# Altium footprint library co2_meter_pcb_library.PcbLib: 17 footprints (part 1 of 2)
Each footprint in its own frame and in the unit in brackets; x right, y up, seen from the top. Pads: shape width x height; smd on the part's side, far side on the other; paste and mask are expansions set on the pad; w line width, h text height; cw(c..) or ccw(c..) is an arc to the next point about the centre after c.
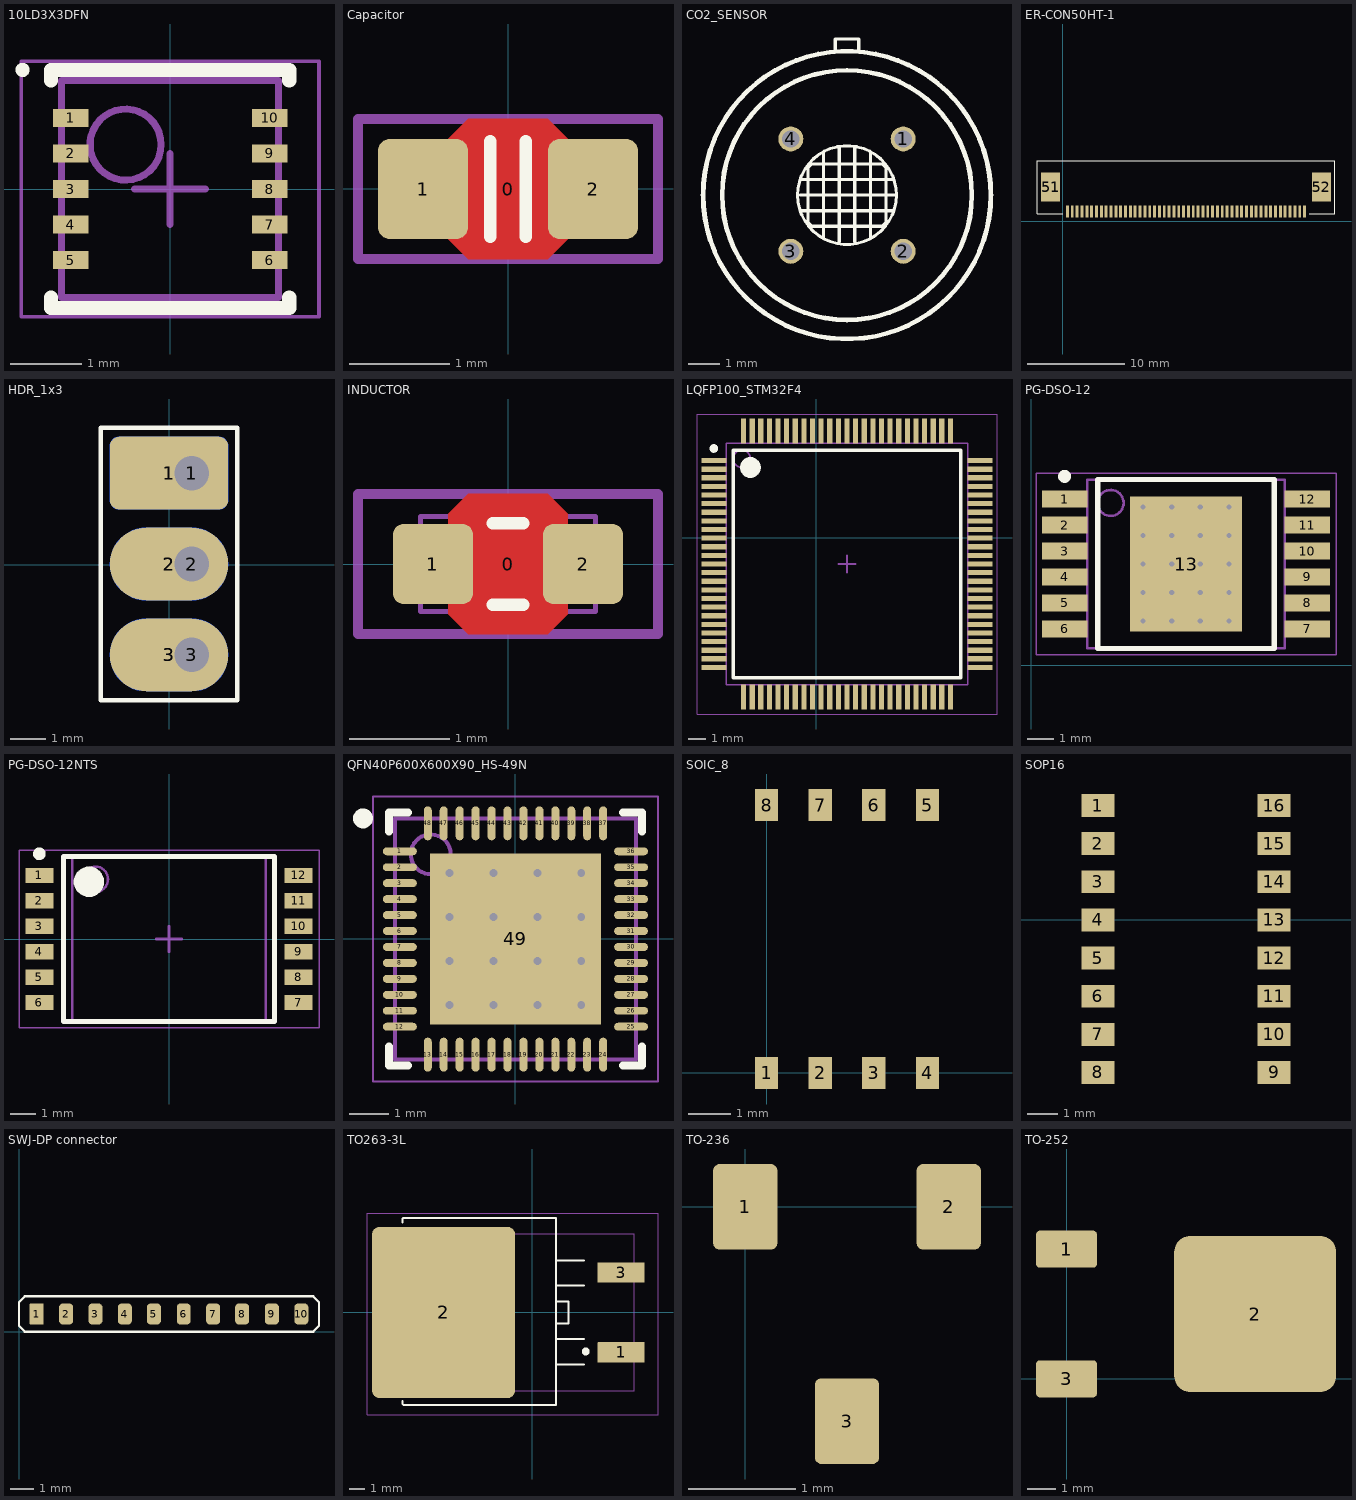
[diagram p0: the footprints below, top view; thin cyan lines are the x and y axes]

## 10LD3X3DFN [mm] "10 PIN DFPNL (DFN) Body 3x3mm, Pitch 0.50mm, IPC Medium Density"
height 0.9
pads (10):
  rect 0.5x0.25 smd: 1(-1.4,1) 2(-1.4,0.5) 3(-1.4,0) 4(-1.4,-0.5) 5(-1.4,-1) 6(1.4,-1) 7(1.4,-0.5) 8(1.4,0) 9(1.4,0.5) 10(1.4,1)
Top Overlay:
  circle w0.1: c-2.075,1.675 r0.05
  lines w0.2: -1.675,-1.525 -1.675,-1.675 1.675,-1.675 1.675,-1.525 ; -1.675,1.525 -1.675,1.675 1.675,1.675 1.675,1.525
Mechanical 13:
  circle w0.1: c-0.625,0.625 r0.5
  lines w0.1: -1.525,-1.525 1.525,-1.525 1.525,1.525 -1.525,1.525 -1.525,-1.525
Mechanical 15:
  lines w0.05: -2.095,-1.8 2.095,-1.8 2.095,1.8 -2.095,1.8 -2.095,-1.8
  lines w0.1: -0.5,0 0.5,0 ; 0,-0.5 0,0.5
3D body "SON50P300X90-10N.step": height 0.9, standoff 0, extent -1.625,-1.525 1.625,1.525

## Capacitor [mm] "Chip Capacitor, Body 1.6x0.8mm, EIA 0603, IPC Medium Density"
height 0.9
pads (3):
  round 0.254 on Mech15: 0(0,0)
  rrect25% 0.9x1 smd: 1(-0.85,0) 2(0.85,0)
Top Layer:
  pour cut-out: -0.6,0.5 -0.4,0.7 0.4,0.7 0.6,0.5 0.6,-0.5 0.4,-0.7 -0.4,-0.7 -0.6,-0.5
Top Overlay:
  lines w0.127: -0.178,-0.476 -0.178,0.476 ; 0.178,-0.476 0.178,0.476
Mechanical 13:
  lines w0.05: -0.55,-0.43 0.55,-0.43 ; -0.55,0.43 0.55,0.43 ; -0.85,-0.45 -0.85,0.45 -0.55,0.45 -0.55,-0.45 -0.85,-0.45 ; 0.55,-0.45 0.55,0.45 0.85,0.45 0.85,-0.45 0.55,-0.45
Mechanical 15:
  lines w0.1: -1.5,-0.7 -1.5,0.7 1.5,0.7 1.5,-0.7 -1.5,-0.7
3D body "CAP_0603.STEP": height 0.89, standoff -0.01, extent -0.85,-0.45 0.85,0.45

## CO2_SENSOR [mm] "4 pin package for TGS4161 sensor"
height 12.5
pads (4):
  round 0.8 hole 0.55: 1(7.971,6.97) 2(7.971,3.37) 3(4.371,3.37) 4(4.371,6.97)
Top Overlay:
  circle w0.15: c6.171,5.17 r4
  circle w0.15: c6.171,5.17 r4.61
  circle w0.1: c6.171,5.17 r1.581
  lines w0.1: 4.671,4.67 7.671,4.67 ; 4.671,5.17 7.752,5.17 ; 4.671,5.67 7.671,5.67 ; 5.421,3.795 5.421,6.545 ; 5.796,9.795 5.796,10.17 6.546,10.17 6.546,9.795 ; 5.921,3.67 5.921,6.67 ; 6.421,3.67 6.421,6.67 ; 6.921,3.795 6.921,6.545 ; 4.921,4.295 5.046,4.17 7.296,4.17 7.421,4.295 7.421,6.045 7.296,6.17 5.046,6.17 4.921,6.045 4.921,4.295
3D body: height 12.46, standoff 12.45, extent 3.471,2.47 8.871,7.87
3D body: height 0.7, standoff 0.05, extent 1.571,0.57 10.771,9.77
3D body: height 0.55, standoff 0.05, extent 5.796,9.77 6.546,10.17
3D body: height 12.45, standoff 0.05, extent 2.121,1.123 10.221,9.217

## ER-CON50HT-1 [mm] "50 pins 0.5mm pitch SMD horizontal type FPC ZIF"
height 2.7
pads (52):
  rect 0.3x1.25 smd: 1(0.5,1) 2(1,1) 3(1.5,1) 4(2,1) 5(2.5,1) 6(3,1) 7(3.5,1) 8(4,1) 9(4.5,1) 10(5,1) 11(5.5,1) 12(6,1) 13(6.5,1) 14(7,1) 15(7.5,1) 16(8,1) 17(8.5,1) 18(9,1) 19(9.5,1) 20(10,1) 21(10.5,1) 22(11,1) 23(11.5,1) 24(12,1) 25(12.5,1) 26(13,1) 27(13.5,1) 28(14,1) 29(14.5,1) 30(15,1) 31(15.5,1) 32(16,1) 33(16.5,1) 34(17,1) 35(17.5,1) 36(18,1) 37(18.5,1) 38(19,1) 39(19.5,1) 40(20,1) 41(20.5,1) 42(21,1) 43(21.5,1) 44(22,1) 45(22.5,1) 46(23,1) 47(23.5,1) 48(24,1) 49(24.5,1) 50(25,1)
  rect 2x3 smd: 51(-1.25,3.5) 52(26.75,3.5)
Top Overlay:
  lines w0.1: 0,0.75 -2.6,0.75 -2.6,6.25 28.1,6.25 28.1,0.75 25.5,0.75
3D body "ER-CON50HT-1--3DModel-STEP-56544.STEP": height 2.06, standoff 0.01, extent -2.575,0.75 28.075,6.25

## HDR_1x3 [mil]
pads (9):
  rrect25% 130x80 smd far side: 1(-0.35,100.71)
  rrect25% 130x80 smd: 1(-0.35,100.71)
  rrect25% 60x60 hole 38: 1(24.65,100.71)
  oval 130x80 smd far side: 2(-0.35,0.71) 3(-0.35,-99.29)
  oval 130x80 smd: 2(-0.35,0.71) 3(-0.35,-99.29)
  round 60 hole 38: 2(24.65,0.71) 3(24.65,-99.29)
Top Overlay:
  lines w5: -75.35,-149.29 74.65,-149.29 74.65,150.71 -75.35,150.71 -75.35,-149.29

## INDUCTOR [mm] "Chip Ferrite, Body 1.6x0.8mm, 0603, IPC Medium Density"
height 0.95
pads (3):
  round 0.254 on Mech15: 0(0,0)
  rrect25% 0.8x0.8 smd: 1(-0.75,0) 2(0.75,0)
Top Layer:
  pour cut-out: -0.6,0.5 -0.4,0.7 0.4,0.7 0.6,0.5 0.6,-0.5 0.4,-0.7 -0.4,-0.7 -0.6,-0.5
Top Overlay:
  lines w0.127: -0.152,-0.406 0.152,-0.406 ; -0.152,0.406 0.152,0.406
Mechanical 13:
  lines w0.05: -0.475,-0.475 -0.475,0.475 ; 0.475,-0.475 0.475,0.475 ; -0.875,-0.475 0.875,-0.475 0.875,0.475 -0.875,0.475 -0.875,-0.475
Mechanical 15:
  lines w0.1: -1.5,-0.7 -1.5,0.7 1.5,0.7 1.5,-0.7 -1.5,-0.7
3D body "FBC1608X95N.STEP": height 0.95, standoff 0, extent -0.875,-0.475 0.875,0.475

## LQFP100_STM32F4 [mm] "TSQFP, 100-Leads, Body 14.00x14.00mm, Pitch 0.50mm, IPC Medium Density"
height 1.6
pads (100):
  rect 1.45x0.3 smd: 1(-5.947,4.476) 2(-5.947,3.976) 3(-5.947,3.476) 4(-5.947,2.976) 5(-5.947,2.476) 6(-5.947,1.976) 7(-5.947,1.476) 8(-5.947,0.976) 9(-5.947,0.476) 10(-5.947,-0.024) 11(-5.947,-0.524) 12(-5.947,-1.024) 13(-5.947,-1.524) 14(-5.947,-2.024) 15(-5.947,-2.524) 16(-5.947,-3.024) 17(-5.947,-3.524) 18(-5.947,-4.024) 19(-5.947,-4.524) 20(-5.947,-5.024) 21(-5.947,-5.524) 22(-5.947,-6.024) 23(-5.947,-6.524) 24(-5.947,-7.024) 25(-5.947,-7.524) 51(9.503,-7.524) 52(9.503,-7.024) 53(9.503,-6.524) 54(9.503,-6.024) 55(9.503,-5.524) 56(9.503,-5.024) 57(9.503,-4.524) 58(9.503,-4.024) 59(9.503,-3.524) 60(9.503,-3.024) 61(9.503,-2.524) 62(9.503,-2.024) 63(9.503,-1.524) 64(9.503,-1.024) 65(9.503,-0.524) 66(9.503,-0.024) 67(9.503,0.476) 68(9.503,0.976) 69(9.503,1.476) 70(9.503,1.976) 71(9.503,2.476) 72(9.503,2.976) 73(9.503,3.476) 74(9.503,3.976) 75(9.503,4.476)
  rect 0.3x1.45 smd: 26(-4.222,-9.249) 27(-3.722,-9.249) 28(-3.222,-9.249) 29(-2.722,-9.249) 30(-2.222,-9.249) 31(-1.722,-9.249) 32(-1.222,-9.249) 33(-0.722,-9.249) 34(-0.222,-9.249) 35(0.278,-9.249) 36(0.778,-9.249) 37(1.278,-9.249) 38(1.778,-9.249) 39(2.278,-9.249) 40(2.778,-9.249) 41(3.278,-9.249) 42(3.778,-9.249) 43(4.278,-9.249) 44(4.778,-9.249) 45(5.278,-9.249) 46(5.778,-9.249) 47(6.278,-9.249) 48(6.778,-9.249) 49(7.278,-9.249) 50(7.778,-9.249) 76(7.778,6.201) 77(7.278,6.201) 78(6.778,6.201) 79(6.278,6.201) 80(5.778,6.201) 81(5.278,6.201) 82(4.778,6.201) 83(4.278,6.201) 84(3.778,6.201) 85(3.278,6.201) 86(2.778,6.201) 87(2.278,6.201) 88(1.778,6.201) 89(1.278,6.201) 90(0.778,6.201) 91(0.278,6.201) 92(-0.222,6.201) 93(-0.722,6.201) 94(-1.222,6.201) 95(-1.722,6.201) 96(-2.222,6.201) 97(-2.722,6.201) 98(-3.222,6.201) 99(-3.722,6.201) 100(-4.222,6.201)
Top Overlay:
  circle w0.6: c-3.822,4.076 r0.3
  circle w0.25: c-5.947,5.176 r0.125
  lines w0.2: -4.822,-8.124 8.378,-8.124 8.378,5.076 -4.822,5.076 -4.822,-8.124
Mechanical 13:
  circle w0.1: c-4.322,4.576 r0.5
  lines w0.1: -5.222,-8.524 8.778,-8.524 8.778,5.476 -5.222,5.476 -5.222,-8.524
Mechanical 15:
  lines w0.05: -6.922,-10.224 10.478,-10.224 10.478,7.176 -6.922,7.176 -6.922,-10.224
  lines w0.1: 1.278,-1.524 2.278,-1.524 ; 1.778,-2.024 1.778,-1.024
3D body "LQFP100_STM32F4.step": height 1.6, standoff 0, extent -6.222,-9.524 9.778,6.476

## PG-DSO-12 [mm] "12 pin PG-DSO12 dual inline package with ground pad"
height 2.6
pads (13):
  rect 1.75x0.65 smd: 1(1.279,6.402) 2(1.279,5.402) 3(1.279,4.402) 4(1.279,3.402) 5(1.279,2.402) 6(1.279,1.402) 7(10.629,1.402) 8(10.629,2.402) 9(10.629,3.402) 10(10.629,4.402) 11(10.629,5.402) 12(10.629,6.402)
  rect 4.3x5.2 smd: 13(5.954,3.902)
via 7.604,1.702 diameter 0.5 hole 0.2
via 6.504,1.702 diameter 0.5 hole 0.2
via 5.404,1.702 diameter 0.5 hole 0.2
via 4.304,1.702 diameter 0.5 hole 0.2
via 7.604,2.802 diameter 0.5 hole 0.2
via 6.504,2.802 diameter 0.5 hole 0.2
via 5.404,2.802 diameter 0.5 hole 0.2
via 4.304,2.802 diameter 0.5 hole 0.2
via 7.604,3.902 diameter 0.5 hole 0.2
via 6.504,3.902 diameter 0.5 hole 0.2
via 5.404,3.902 diameter 0.5 hole 0.2
via 4.304,3.902 diameter 0.5 hole 0.2
via 7.604,5.002 diameter 0.5 hole 0.2
via 6.504,5.002 diameter 0.5 hole 0.2
via 5.404,5.002 diameter 0.5 hole 0.2
via 4.304,5.002 diameter 0.5 hole 0.2
via 7.604,6.102 diameter 0.5 hole 0.2
via 6.504,6.102 diameter 0.5 hole 0.2
via 5.404,6.102 diameter 0.5 hole 0.2
via 4.304,6.102 diameter 0.5 hole 0.2
Top Overlay:
  circle w0.25: c1.279,7.277 r0.125
  lines w0.2: 2.554,0.652 9.354,0.652 9.354,7.152 2.554,7.152 2.554,0.652
Mechanical 13:
  circle w0.1: c3.054,6.252 r0.5
  lines w0.1: 2.154,0.652 9.754,0.652 9.754,7.152 2.154,7.152 2.154,0.652
Mechanical 15:
  lines w0.05: 0.179,0.402 11.729,0.402 11.729,7.402 0.179,7.402 0.179,0.402
  lines w0.1: 5.454,3.902 6.454,3.902 ; 5.954,3.402 5.954,4.402
3D body "PG_DSO_12.step": height 2.6, standoff 0, extent 0.804,0.652 11.104,7.152

## PG-DSO-12NTS [mm] "12 pin PG-DSO12 dual inline package withOUT ground pad"
height 2.6
pads (12):
  rect 1.1x0.6 smd: 1(-5.1,2.5) 2(-5.1,1.5) 3(-5.1,0.5) 4(-5.1,-0.5) 5(-5.1,-1.5) 6(-5.1,-2.5) 7(5.1,-2.5) 8(5.1,-1.5) 9(5.1,-0.5) 10(5.1,0.5) 11(5.1,1.5) 12(5.1,2.5)
Top Overlay:
  circle w0.25: c-5.1,3.35 r0.125
  circle w0.6: c-3.15,2.25 r0.3
  lines w0.2: -4.15,-3.25 -4.15,3.25 4.15,3.25 4.15,-3.25 -4.15,-3.25
Mechanical 13:
  circle w0.1: c-2.9,2.35 r0.5
  lines w0.1: -3.8,-3.25 -3.8,3.25 3.8,3.25 3.8,-3.25 -3.8,-3.25
Mechanical 15:
  lines w0.05: -5.9,-3.5 -5.9,3.5 5.9,3.5 5.9,-3.5 -5.9,-3.5
  lines w0.1: -0.5,0 0.5,0 ; 0,-0.5 0,0.5
3D body "PG-DSO-12NTS.step": height 2.6, standoff 0, extent -5.15,-3.25 5.15,3.25

## QFN40P600X600X90_HS-49N [mm] "QFN, 48-Leads, Body 6.00x6.00mm, Pitch 0.40mm, Thermal Pad 4.30x4.30mm, IPC Medium Density"
height 0.9
pads (49):
  oval 0.85x0.2 smd: 1(-2.9,2.2) 2(-2.9,1.8) 3(-2.9,1.4) 4(-2.9,1) 5(-2.9,0.6) 6(-2.9,0.2) 7(-2.9,-0.2) 8(-2.9,-0.6) 9(-2.9,-1) 10(-2.9,-1.4) 11(-2.9,-1.8) 12(-2.9,-2.2) 25(2.9,-2.2) 26(2.9,-1.8) 27(2.9,-1.4) 28(2.9,-1) 29(2.9,-0.6) 30(2.9,-0.2) 31(2.9,0.2) 32(2.9,0.6) 33(2.9,1) 34(2.9,1.4) 35(2.9,1.8) 36(2.9,2.2)
  oval 0.2x0.85 smd: 13(-2.2,-2.9) 14(-1.8,-2.9) 15(-1.4,-2.9) 16(-1,-2.9) 17(-0.6,-2.9) 18(-0.2,-2.9) 19(0.2,-2.9) 20(0.6,-2.9) 21(1,-2.9) 22(1.4,-2.9) 23(1.8,-2.9) 24(2.2,-2.9) 37(2.2,2.9) 38(1.8,2.9) 39(1.4,2.9) 40(1,2.9) 41(0.6,2.9) 42(0.2,2.9) 43(-0.2,2.9) 44(-0.6,2.9) 45(-1,2.9) 46(-1.4,2.9) 47(-1.8,2.9) 48(-2.2,2.9)
  rect 4.3x4.3 smd: 49(0,0)
via 1.65,-1.65 diameter 0.5 hole 0.2
via 0.55,-1.65 diameter 0.5 hole 0.2
via -0.55,-1.65 diameter 0.5 hole 0.2
via -1.65,-1.65 diameter 0.5 hole 0.2
via 1.65,-0.55 diameter 0.5 hole 0.2
via 0.55,-0.55 diameter 0.5 hole 0.2
via -0.55,-0.55 diameter 0.5 hole 0.2
via -1.65,-0.55 diameter 0.5 hole 0.2
via 1.65,0.55 diameter 0.5 hole 0.2
via 0.55,0.55 diameter 0.5 hole 0.2
via -0.55,0.55 diameter 0.5 hole 0.2
via -1.65,0.55 diameter 0.5 hole 0.2
via 1.65,1.65 diameter 0.5 hole 0.2
via 0.55,1.65 diameter 0.5 hole 0.2
via -0.55,1.65 diameter 0.5 hole 0.2
via -1.65,1.65 diameter 0.5 hole 0.2
Top Overlay:
  circle w0.25: c-3.825,3.025 r0.125
  lines w0.2: -3.175,-2.7 -3.175,-3.175 -2.7,-3.175 ; -3.175,2.7 -3.175,3.175 -2.7,3.175 ; 2.7,-3.175 3.175,-3.175 3.175,-2.7 ; 2.7,3.175 3.175,3.175 3.175,2.7
Mechanical 13:
  circle w0.1: c-2.125,2.125 r0.5
  lines w0.1: -3.025,-3.025 3.025,-3.025 3.025,3.025 -3.025,3.025 -3.025,-3.025
Mechanical 15:
  lines w0.05: -3.575,-3.575 3.575,-3.575 3.575,3.575 -3.575,3.575 -3.575,-3.575
  lines w0.1: -0.5,0 0.5,0 ; 0,-0.5 0,0.5
3D body "QFN40P600X600X90_HS-49N.step": height 0.9, standoff 0, extent -3.075,-3.075 3.075,3.075

## SOIC_8 [mm] "SOIC 8 Pin"
height 1.75
pads (8):
  rect 0.55x0.76 smd: 1(0,0) 2(1.27,0) 3(2.54,0) 4(3.81,0) 5(3.81,6.35) 6(2.54,6.35) 7(1.27,6.35) 8(0,6.35)
3D body "M08A.stp": height 1.76, standoff 0, extent -0.597,0.076 4.407,6.274

## SOP16 [mm]
height 4
pads (16):
  rect 1.1x0.76 smd: 1(5.08,3.81) 2(5.08,2.54) 3(5.08,1.27) 4(5.08,0) 5(5.08,-1.27) 6(5.08,-2.54) 7(5.08,-3.81) 8(5.08,-5.08) 9(10.95,-5.08) 10(10.95,-3.81) 11(10.95,-2.54) 12(10.95,-1.27) 13(10.95,0) 14(10.95,1.27) 15(10.95,2.54) 16(10.95,3.81)
3D body "TLP291-4(SOP16).STEP": height 2.1, standoff 0, extent 4.515,-5.783 11.515,4.517

## SWJ-DP connector [mm] "10 pin SWJ-DP PCB connector"
pads (10):
  rrect8% 0.6x0.9 smd: 1(0.762,0.762)
  rrect50% 0.6x0.9 smd: 2(2.032,0.762) 3(3.302,0.762) 4(4.572,0.762) 5(5.826,0.762) 6(7.112,0.762) 7(8.382,0.762) 8(9.636,0.762) 9(10.922,0.762) 10(12.192,0.762)
Top Overlay:
  lines w0.1: 0,0.254 0.254,0 12.7,0 12.954,0.254 12.954,1.27 12.7,1.524 0.254,1.524 0,1.27 0,0.254

## TO263-3L [mm] "D-PAK/TO-263-3; 3 Leads (1 Cropped); Body 14.7 (inc. leads) x 10.2 mm (LxW max)"
height 4.572
pads (3):
  rrect5% 3x1.3 smd: 1(5.651,-2.54) 3(5.651,2.54)
  rrect10% 9.1x10.9 smd: 2(-5.651,0)
Top Overlay:
  circle w0.25: c3.398,-2.485 r0.125
  lines w0.127: -8.255,-5.639 -8.255,-5.842 -8.197,-5.9 -8,-5.9 1.5,-5.9 1.5,6 -8,6 -8.224,6 -8.255,5.969 -8.255,5.715 ; 3.3,-3.3 1.5,-3.3 1.5,-1.7 3.3,-1.7 ; 3.3,1.7 1.5,1.7 1.5,3.3 3.3,3.3 ; 1.5,-0.7 1.5,0.7 2.3,0.7 2.3,-0.7 1.5,-0.7
Mechanical 13:
  lines w0.076: -9.18,-5 6.49,-5 6.49,5 -9.18,5 -9.18,-5
Mechanical 15:
  lines w0.076: -10.5,-6.5 -10.5,6.3 8,6.3 8,-6.5 -10.5,-6.5
3D body "SW3dPS-TO263-3S.STEP": height 4.81, standoff 1, extent -9.18,-5 6.49,5

## TO-236 [mm] "TO-236"
height 1.15
pads (3):
  rrect20% 0.6x0.8 smd: 1(0,0) 2(1.9,0) 3(0.95,-2)
3D body "SOT95P240X110-3M[SOT23-3_TO-236AB].STEP": height 1.11, standoff 0.01, extent -0.55,-2.25 2.45,0.25

## TO-252 [mm] "NDP Package  3-Pin TO-252"
height 2.55
pads (3):
  rrect20% 2.15x1.3 smd: 1(0,4.57) 3(0,0)
  rrect20% 5.7x5.5 smd: 2(6.645,2.285)
3D body "TD03B-L.stp": height 2.4, standoff -0.04, extent -0.343,-1.08 7.419,5.652